# Altium footprint library EceParts.PcbLib: 92 footprints (part 6 of 6)
Each footprint in its own frame and in the unit in brackets; x right, y up, seen from the top. Pads: shape width x height; smd on the part's side, far side on the other; paste and mask are expansions set on the pad; w line width, h text height; cw(c..) or ccw(c..) is an arc to the next point about the centre after c.
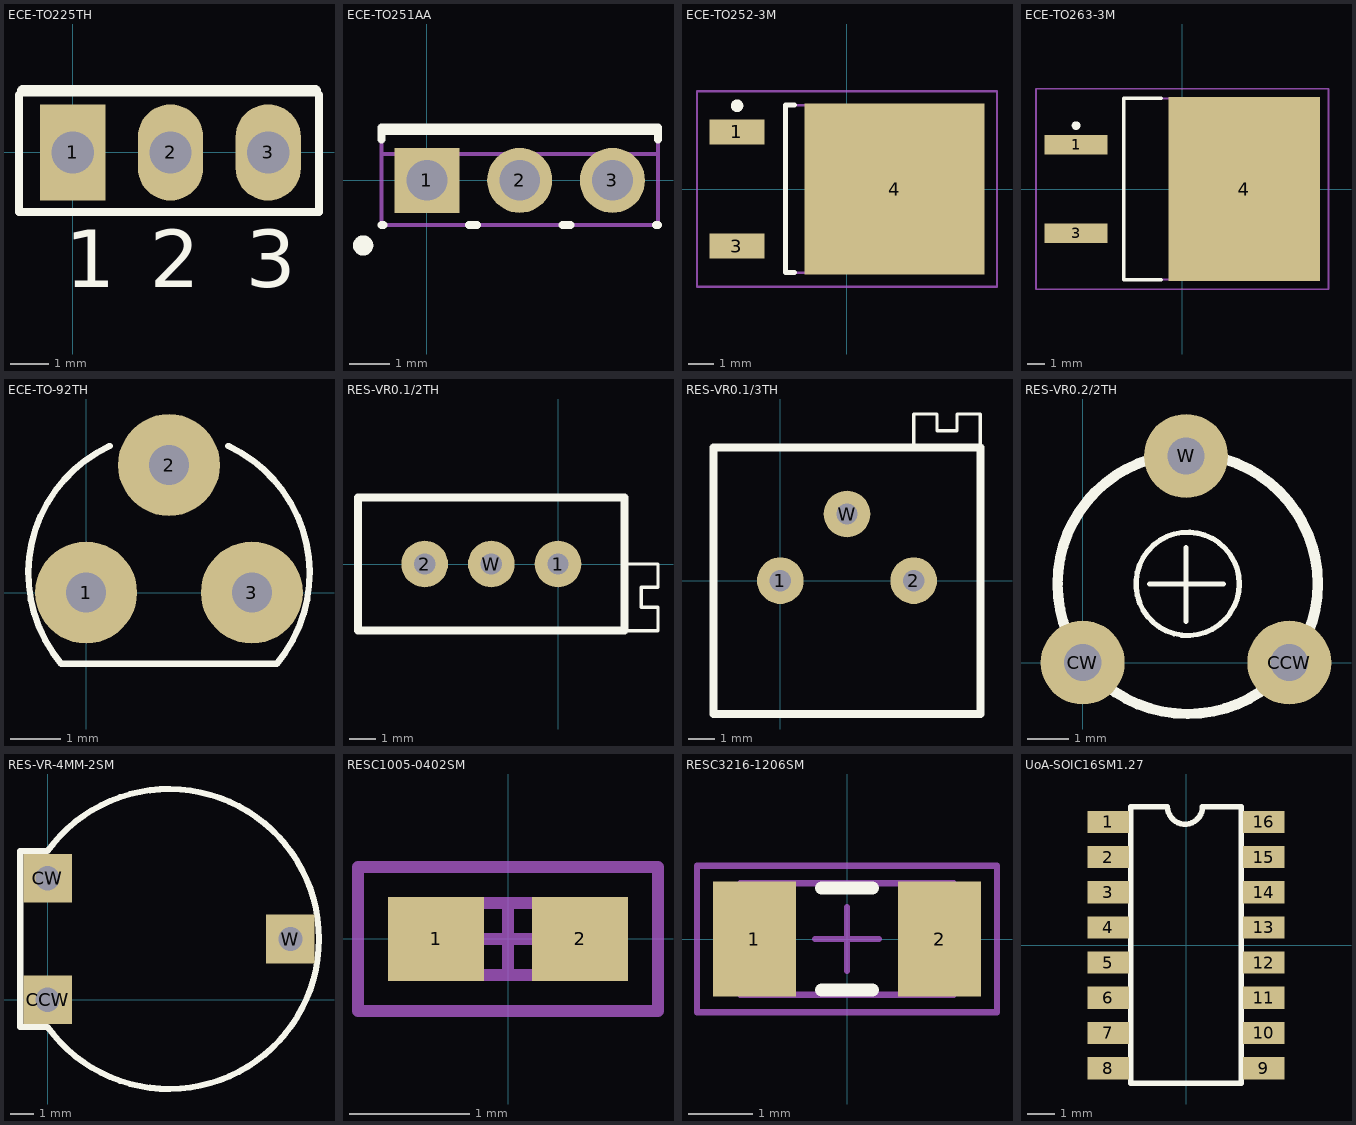
[diagram p5: the footprints below, top view; thin cyan lines are the x and y axes]

## ECE-TO225TH [mm] "Transidtor TO225"
height 11
pads (3):
  rect 1.7x2.5 hole 1.1: 1(0,0)
  oval 1.7x2.5 hole 1.1: 2(2.54,0) 3(5.08,0)
Top Overlay:
  lines w0.2: -1.4,1.5 -1.4,-1.55 6.4,-1.55 6.4,1.5
  lines w0.3: -1.3,1.6 6.3,1.6
  text "1" at -0.2,-3.5 h1.5
  text "2" at 2,-3.5 h1.5
  text "3" at 4.5,-3.5 h1.5

## ECE-TO251AA [mm] "TO, Thru-Hole, Vertical, Heatsink Mounted; 3 In-Line Leads; Pitch 2.28 mm"
height 9.7
pads (3):
  rect 1.6x1.6 hole 1: 1(0,0)
  round 1.6 hole 1: 2(2.28,0) 3(4.56,0)
Top Overlay:
  circle w0.25: c-1.57,-1.6 r0.125
  lines w0.2: -1.12,-1.1 -1.07,-1.1 ; -1.12,1 -1.12,1.3 5.68,1.3 5.68,1 ; -1.12,1.21 5.68,1.21 ; 1.03,-1.1 1.23,-1.1 ; 3.33,-1.1 3.53,-1.1 ; 5.63,-1.1 5.68,-1.1
Mechanical 13:
  lines w0.1: -1.12,0.65 5.68,0.65 ; -1.12,-1.1 -1.12,1.3 5.68,1.3 5.68,-1.1 -1.12,-1.1
Mechanical 15:
  lines w0.1: 1.78,0 2.78,0 ; 2.28,-0.5 2.28,0.5
3D body: height 9.7, standoff 9.3, extent -1.119,0.651 5.679,1.299
3D body: height 9.3, standoff 2.6, extent -1.17,-1.15 5.73,1.35

## ECE-TO252-3M [mm] "D-PAK, 4-Leads, Body 6.1x6.5mm, Pitch 2.28mm, Lead Span 9.7mm, IPC Low Density"
height 2.38
pads (3):
  rect 2.2x1 smd: 1(-4.4,2.28) 3(-4.4,-2.28)
  rect 7.2x6.85 smd: 4(1.9,0)
Top Overlay:
  circle w0.25: c-4.4,3.33 r0.125
  lines w0.2: -2.1,-3.35 -2.45,-3.35 -2.45,3.35 -2.1,3.35
Mechanical 13:
  lines w0.1: -2.45,-3.35 3.75,-3.35 3.75,3.35 -2.45,3.35 -2.45,-3.35
Mechanical 15:
  lines w0.1: -0.5,0 0.5,0 ; 0,-0.5 0,0.5 ; -6,-3.9 6,-3.9 6,3.9 -6,3.9 -6,-3.9
3D body: height 2.38, standoff 0, extent -2.45,-3.35 3.75,3.35

## ECE-TO263-3M [mm] "D2-PAK, 4-Leads, Body 9.4x10.2mm, Pitch 2.54mm, Lead Span 14.3mm, IPC Low Density"
height 4.65
pads (3):
  rect 3.6x1.1 smd: 1(-6.1,2.54) 3(-6.1,-2.54)
  rect 8.7x10.55 smd: 4(3.55,0)
Top Overlay:
  circle w0.25: c-6.1,3.64 r0.125
  lines w0.2: -1.2,-5.2 -3.35,-5.2 -3.35,5.2 -1.2,5.2
Mechanical 13:
  lines w0.1: -3.35,-5.2 6.05,-5.2 6.05,5.2 -3.35,5.2 -3.35,-5.2
Mechanical 15:
  lines w0.1: -0.5,0 0.5,0 ; 0,-0.5 0,0.5 ; -8.4,-5.75 8.4,-5.75 8.4,5.75 -8.4,5.75 -8.4,-5.75
3D body: height 4.65, standoff 0, extent -3.35,-5.2 6.05,5.2

## ECE-TO-92TH [mil] "Transistor TO92"
height 397.64
pads (3):
  round 80 hole 31.5: 1(0,0) 2(65,100) 3(130,0)
Top Overlay:
  lines w5: 18.41,114.91 ccw(c65,15) -19.45,-55.86 149.45,-55.86 ccw(c65,15) 111.59,114.91
3D body: height 404.72, standoff -100, extent -29.56,-54.52 159.57,107.49

## RES-VR0.1/2TH [mil] "Variable Resistor"
pads (3):
  round 70 hole 32: 1(0,0) 2(-200,0) W(-100,0)
Top Overlay:
  lines w5: 100,-100 150,-100 150,-65 125,-65 125,-35 150,-35 150,0 100,0
  lines w12: -300,-100 100,-100 100,100 -300,100 -300,-100

## RES-VR0.1/3TH [mil] "Variable Resistor"
pads (3):
  round 70 hole 32: 1(0,0) 2(200,0) W(100,100)
Top Overlay:
  lines w5: 200,200 200,250 235,250 235,225 265,225 265,250 300,250 300,200
  lines w12: -100,-200 -100,200 300,200 300,-200 -100,-200

## RES-VR0.2/2TH [mil] "Variable Resistor Single Turn"
height 118.11
pads (3):
  round 80 hole 35.43: CCW(196.85,0) CW(0,0) W(98.43,196.85)
Top Overlay:
  circle w5: c100,75 r49.21
  circle w10: c100,75 r124.02
  lines w5: 25,10 30,15 ; 63.86,74.8 133.86,74.8 ; 98.43,39.37 98.43,109.37

## RES-VR-4MM-2SM [mil] "Variable Resistor Surface Mount"
height 393.7
pads (3):
  rect 80x80 hole 40: CCW(0,0) CW(0,200) W(400,100)
Top Overlay:
  lines w10: -45,-45 0,-45 ccw(c200,100) 447.03,100 ccw(c200,100) 0,245 -45,245 -45,-45

## RESC1005-0402SM [mm] "Chip Resistor, Body 1.1x0.5mm, IPC Medium Density"
height 0.4
pads (2):
  rect 0.8x0.7 smd: 1(-0.6,0) 2(0.6,0)
Mechanical 13:
  lines w0.1: -0.55,-0.3 -0.55,0.3 0.55,0.3 0.55,-0.3 -0.55,-0.3
Mechanical 15:
  lines w0.1: -0.3,0 0.3,0 ; 0,-0.3 0,0.3 ; -1.25,-0.6 -1.25,0.6 1.25,0.6 1.25,-0.6 -1.25,-0.6
3D body: height 0.4, standoff 0, extent -0.55,-0.3 0.55,0.3

## RESC3216-1206SM [mm] "Chip Resistor, Body 3.2x1.6mm, IPC Medium Density"
height 0.71
pads (2):
  rect 1.3x1.8 smd: 1(-1.45,0) 2(1.45,0)
Top Overlay:
  lines w0.2: -0.4,-0.8 0.4,-0.8 ; -0.4,0.8 0.4,0.8
Mechanical 13:
  lines w0.1: -1.675,-0.875 1.675,-0.875 1.675,0.875 -1.675,0.875 -1.675,-0.875
Mechanical 15:
  lines w0.1: -0.5,0 0.5,0 ; 0,-0.5 0,0.5 ; -2.35,-1.15 2.35,-1.15 2.35,1.15 -2.35,1.15 -2.35,-1.15
3D body: height 0.71, standoff 0, extent -1.675,-0.875 1.675,0.875

## UoA-SOIC16SM1.27 [mm]
pads (16):
  rect 1.5x0.8 smd: 1(-2.8,4.445) 2(-2.8,3.175) 3(-2.8,1.905) 4(-2.8,0.635) 5(-2.8,-0.635) 6(-2.8,-1.905) 7(-2.8,-3.175) 8(-2.8,-4.45) 9(2.8,-4.45) 10(2.8,-3.175) 11(2.8,-1.905) 12(2.8,-0.635) 13(2.8,0.635) 14(2.8,1.905) 15(2.8,3.175) 16(2.8,4.445)
Top Overlay:
  lines w0.2: -0.675,5 -2,5 -2,-5 2,-5 2,5 0.595,5 ; -0.67,5 ccw(c-0.035,5) 0.6,5